# Altium footprint library R2512.PcbLib: 1 footprints
Each footprint in its own frame and in the unit in brackets; x right, y up, seen from the top. Pads: shape width x height; smd on the part's side, far side on the other; paste and mask are expansions set on the pad; w line width, h text height; cw(c..) or ccw(c..) is an arc to the next point about the centre after c.
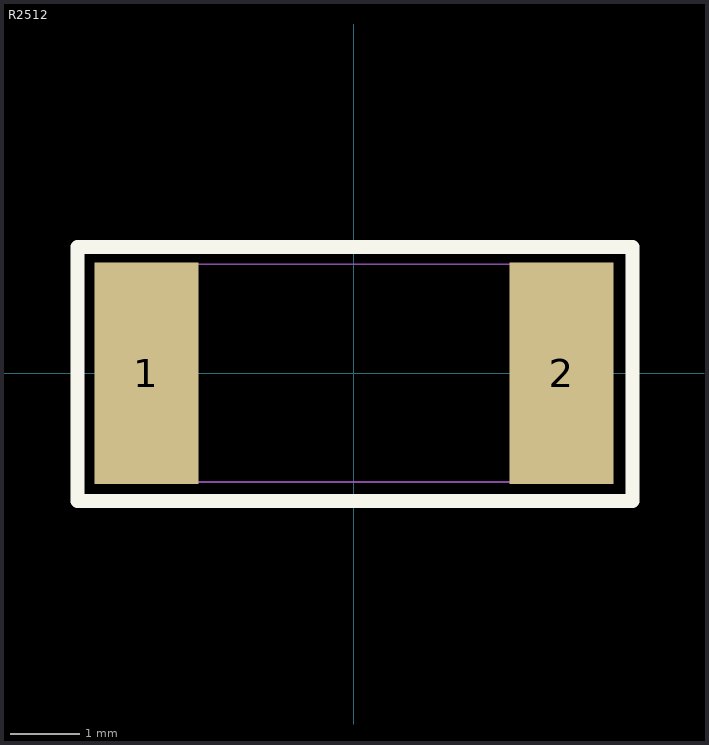
[diagram p0: the footprint, top view; thin cyan lines are the x and y axes]

## R2512 [mm] "Chip Resistor, Body 6.4x3.2mm, IPC Medium Density"
height 1.1
pads (2):
  rect 1.5x3.2 smd: 1(-3,0) 2(3,0)
Top Overlay:
  lines w0.203: -4,-1.85 -4,1.825 4.025,1.825 4.025,-1.85 -4,-1.85
Mechanical 1:
  lines w0.025: -2.45,-1.575 -2.45,1.575 ; 2.45,-1.575 2.45,1.575 ; -3.15,-1.575 3.15,-1.575 3.15,1.575 -3.15,1.575 -3.15,-1.575
3D body: height 0.47, standoff 0, extent -3.175,-1.601 3.175,1.601